# EAGLE library part TDA8702 (library 0myLib)
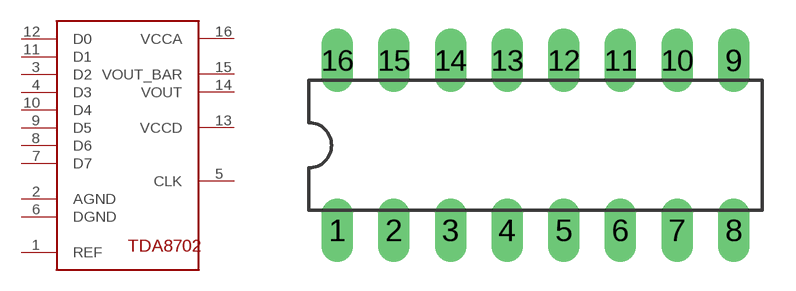
[diagram p51: symbol with the pads of DIL16; footprint DIL16]

Designator prefix -

## TDA8702  [DIL16]
1  REF
2  AGND
3  D2
4  D3
5  CLK
6  DGND
7  D7
8  D6
9  D5
10  D4
11  D1
12  D0
13  VCCD
14  VOUT
15  VOUT_BAR
16  VCCA

## Footprint DIL16 (pad centres in mm)
Dual In Line Package
drill 0.813 pad 1.422 long: 1 -8.89,-3.81; 2 -6.35,-3.81; 3 -3.81,-3.81; 4 -1.27,-3.81; 5 1.27,-3.81; 6 3.81,-3.81; 7 6.35,-3.81; 8 8.89,-3.81; 9 8.89,3.81; 10 6.35,3.81; 11 3.81,3.81; 12 1.27,3.81; 13 -1.27,3.81; 14 -3.81,3.81; 15 -6.35,3.81; 16 -8.89,3.81